# Altium footprint library DGM01.PcbLib: 1 footprints
Each footprint in its own frame and in the unit in brackets; x right, y up, seen from the top. Pads: shape width x height; smd on the part's side, far side on the other; paste and mask are expansions set on the pad; w line width, h text height; cw(c..) or ccw(c..) is an arc to the next point about the centre after c.
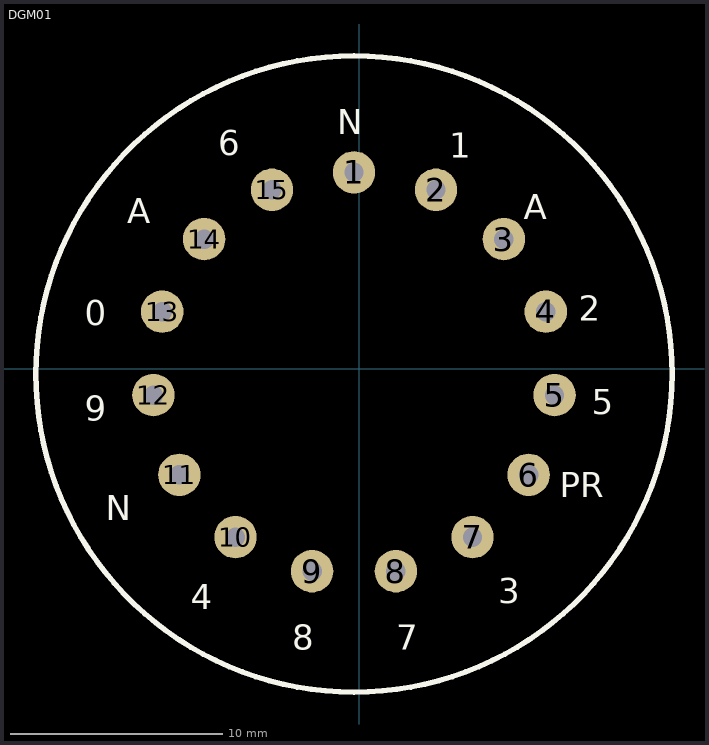
[diagram p0: the footprint, top view; thin cyan lines are the x and y axes]

## DGM01 [mm] "inixielab.com"
pads (15):
  round 2 hole 0.914: 1(-0.24,9.266) 2(3.627,8.445) 3(6.825,6.121) 4(8.801,2.698) 5(9.214,-1.234) 6(7.993,-4.993) 7(5.348,-7.931) 8(1.737,-9.539) 9(-2.217,-9.539) 10(-5.828,-7.931) 11(-8.473,-4.993) 12(-9.694,-1.234) 13(-9.281,2.698) 14(-7.305,6.121) 15(-4.107,8.445)
Top Overlay:
  circle w0.254: c-0.24,-0.24 r15
  text "N" at -1.04,10.66 h2
  text "1" at 4.26,9.56 h2
  text "2" at 10.36,1.86 h2
  text "A" at 7.76,6.66 h2
  text "5" at 10.96,-2.54 h2
  text "PR" at 9.46,-6.44 h2
  text "3" at 6.56,-11.44 h2
  text "7" at 1.76,-13.64 h2
  text "8" at -3.14,-13.64 h2
  text "4" at -7.94,-11.74 h2
  text "N" at -11.94,-7.54 h2
  text "9" at -12.94,-2.84 h2
  text "0" at -12.94,1.66 h2
  text "A" at -10.94,6.46 h2
  text "6" at -6.64,9.66 h2